# Altium footprint library PcbLib1.PcbLib: 8 footprints
Each footprint in its own frame and in the unit in brackets; x right, y up, seen from the top. Pads: shape width x height; smd on the part's side, far side on the other; paste and mask are expansions set on the pad; w line width, h text height; cw(c..) or ccw(c..) is an arc to the next point about the centre after c.
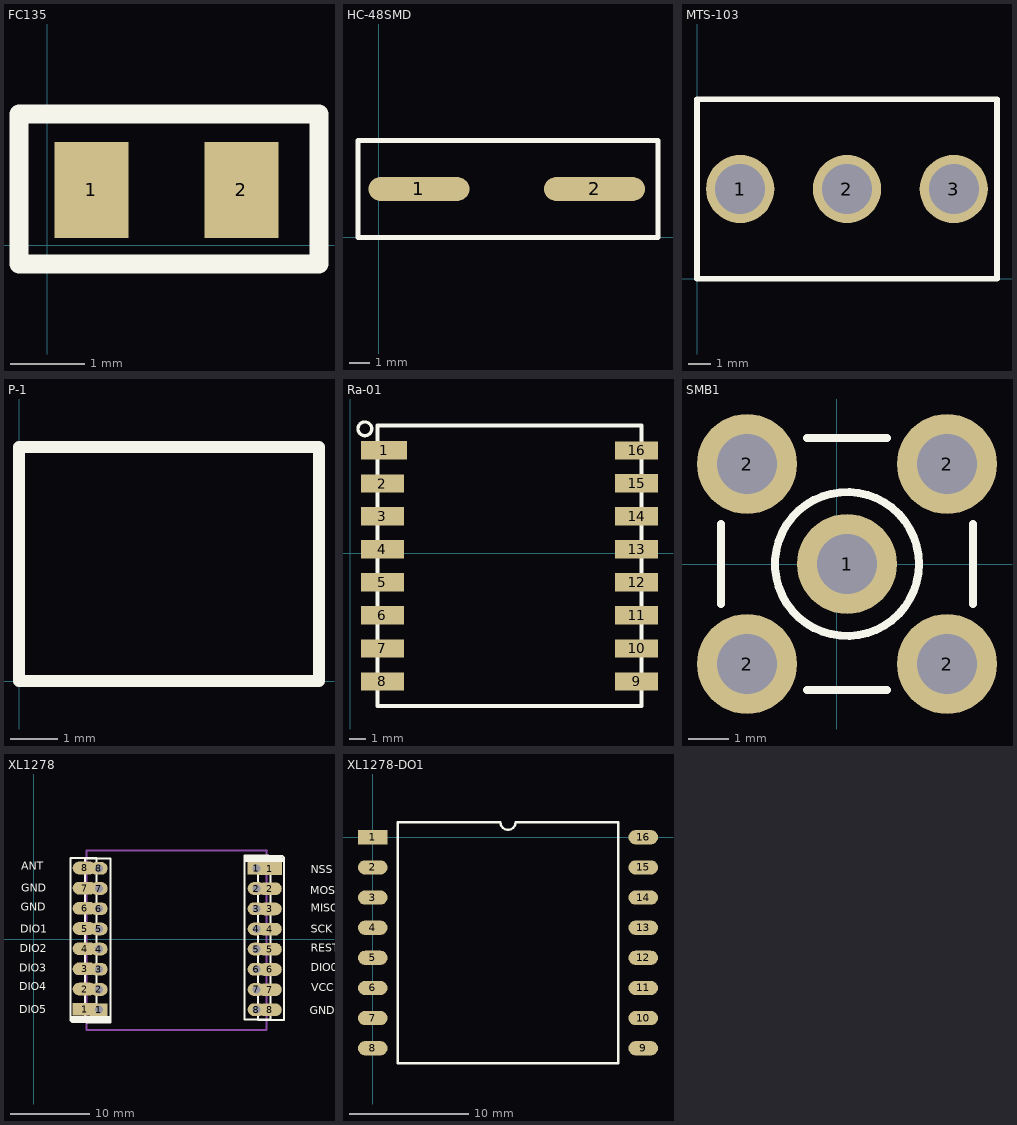
[diagram p0: the footprints below, top view; thin cyan lines are the x and y axes]

## FC135 [mm]
pads (2):
  rect 1x1.3 all layers, no hole: 1(0.6,0.75) 2(2.632,0.75)
Top Overlay:
  lines w0.254: -0.381,-0.254 3.683,-0.254 3.683,1.651 3.683,1.778 2.54,1.778 0.508,1.778 -0.381,1.778 -0.381,-0.254

## HC-48SMD [mm]
pads (2):
  oval 5x1.2 smd: 1(2,2.4) 2(10.7,2.4)
Top Overlay:
  lines w0.254: -1.016,0 -1.016,4.8 13.843,4.8 13.843,0 -1.016,0

## MTS-103 [mm]
height 7.9
pads (3):
  round 3 hole 2.2: 1(1.9,3.95) 2(6.599,3.95) 3(11.298,3.95)
Top Overlay:
  lines w0.254: 0,0 13.2,0 13.2,7.9 0,7.9 0,0

## P-1 [mm]
Top Overlay:
  lines w0.254: 0,0 0,4.953 6.35,4.953 6.35,0 0,0

## Ra-01 [mm]
pads (16):
  rect 2.8x1.1 smd: 1(2.052,6.24)
  rect 2.6x1.1 smd: 2(1.952,4.228) 3(1.952,2.24) 4(1.952,0.24) 5(1.952,-1.76) 6(1.952,-3.76) 7(1.952,-5.76) 8(1.952,-7.76) 9(17.352,-7.76) 10(17.352,-5.76) 11(17.352,-3.76) 12(17.352,-1.76) 13(17.352,0.24) 14(17.352,2.24) 15(17.352,4.24) 16(17.352,6.234)
Top Overlay:
  circle w0.2: c0.889,7.544 r0.417
  lines w0.254: 1.652,-9.26 1.652,7.74 17.652,7.74 17.652,-9.26 1.652,-9.26

## SMB1 [mm]
pads (5):
  round 2.5 hole 1.5: 1(0.254,0) 2(-2.246,-2.5) 2(-2.246,2.5) 2(2.754,-2.5) 2(2.754,2.5)
Top Overlay:
  circle w0.2: c0.254,0 r1.8
  lines w0.2: -2.896,-1 -2.896,1 ; -0.746,-3.15 1.254,-3.15 ; -0.746,3.15 1.254,3.15 ; 3.404,-1 3.404,1

## XL1278 [mm]
pads (32):
  rect 3x1.6 smd: 1(6.426,-8.839) 1(29.743,8.865)
  rect 2.2x1.6 hole 1: 1(8.23,-8.89) 1(28.042,8.89)
  oval 3x1.6 smd: 2(6.426,-6.299) 2(29.743,6.325) 3(6.426,-3.759) 3(29.743,3.785) 4(6.426,-1.219) 4(29.743,1.245) 5(6.426,1.321) 5(29.743,-1.295) 6(6.426,3.861) 6(29.743,-3.835) 7(6.426,6.401) 7(29.743,-6.375) 8(6.426,8.941) 8(29.743,-8.915)
  oval 2.2x1.6 hole 1: 2(8.23,-6.35) 2(28.042,6.35) 3(8.23,-3.81) 3(28.042,3.81) 4(8.23,-1.27) 4(28.042,1.27) 5(8.23,1.27) 5(28.042,-1.27) 6(8.23,3.81) 6(28.042,-3.81) 7(8.23,6.35) 7(28.042,-6.35) 8(8.23,8.89) 8(28.042,-8.89)
Top Overlay:
  region: 28.268,10.245 28.268,9.945 31.518,9.945 31.518,10.245
  region: 28.268,10.464 28.268,9.839 31.293,9.839 31.293,10.464
  region: 28.268,10.239 28.268,9.689 31.518,9.689 31.518,10.239
  region: 7.901,-10.219 7.901,-9.919 4.651,-9.919 4.651,-10.219
  region: 7.897,-10.444 7.897,-9.819 4.872,-9.819 4.872,-10.444
  region: 7.897,-10.219 7.897,-9.669 4.647,-9.669 4.647,-10.219
  region: 9.705,-10.27 9.705,-9.97 6.455,-9.97 6.455,-10.27
  region: 9.701,-10.495 9.701,-9.87 6.676,-9.87 6.676,-10.495
  region: 9.701,-10.27 9.701,-9.72 6.451,-9.72 6.451,-10.27
  region: 26.567,10.27 26.567,9.97 29.817,9.97 29.817,10.27
  region: 26.567,10.491 26.567,9.866 29.592,9.866 29.592,10.491
  region: 26.567,10.266 26.567,9.716 29.817,9.716 29.817,10.266
  lines w0.254: 4.651,-10.219 4.651,10.211 7.901,10.211 7.901,-10.444 4.876,-10.444 4.651,-10.219 ; 6.455,-10.27 6.455,10.16 9.705,10.16 9.705,-10.495 6.68,-10.495 6.455,-10.27 ; 26.567,-10.16 26.567,10.495 29.592,10.495 29.817,10.27 29.817,-10.16 26.567,-10.16 ; 28.268,-10.185 28.268,10.47 31.293,10.47 31.518,10.245 31.518,-10.185 28.268,-10.185
  text "ANT" at -1.549,8.712 h1
  text "DIO5" at -1.829,-9.347 h1
  text "DIO4" at -1.778,-6.452 h1
  text "DIO3" at -1.803,-4.115 h1
  text "DIO2" at -1.727,-1.676 h1
  text "DIO1" at -1.651,0.813 h1
  text "GND" at -1.6,3.556 h1
  text "GND" at -1.575,5.969 h1
  text "GND" at 34.773,-9.474 h1
  text "VCC" at 34.925,-6.604 h1
  text "DIO0" at 34.874,-4.064 h1
  text "REST" at 34.9,-1.575 h1
  text "SCK" at 34.874,0.787 h1
  text "MISO" at 34.874,3.404 h1
  text "MOSI" at 34.823,5.639 h1
  text "NSS" at 34.9,8.28 h1
Mechanical 1:
  lines w0.254: 29.337,-10.541 29.337,10.338 29.337,11.125 29.362,11.151 6.68,11.151 6.68,-11.481 29.337,-11.481 29.337,-10.262

## XL1278-DO1 [mm]
pads (16):
  rect 2.5x1.2 smd: 1(0,0)
  oval 2.5x1.2 smd: 2(0,-2.54) 3(0,-5.08) 4(0,-7.62) 5(0,-10.16) 6(0,-12.7) 7(0,-15.24) 8(0,-17.78) 9(22.78,-17.78) 10(22.78,-15.24) 11(22.78,-12.7) 12(22.78,-10.16) 13(22.78,-7.62) 14(22.78,-5.08) 15(22.78,-2.54) 16(22.78,0)
Top Overlay:
  lines w0.2: 2.085,-19.05 2.085,1.27 10.755,1.27 ccw(c11.39,1.27) 12.025,1.27 20.695,1.27 20.695,-19.05 2.085,-19.05